# EAGLE library part DIN41612-160P (library ds_con)
Receptacle, Board-to-Board, 160 Position, 2.54 mm [.1 in] Centerline, Printed Circuit Board, 5 Row, Vertical, Eurocard Type L, Eurocard Connectors
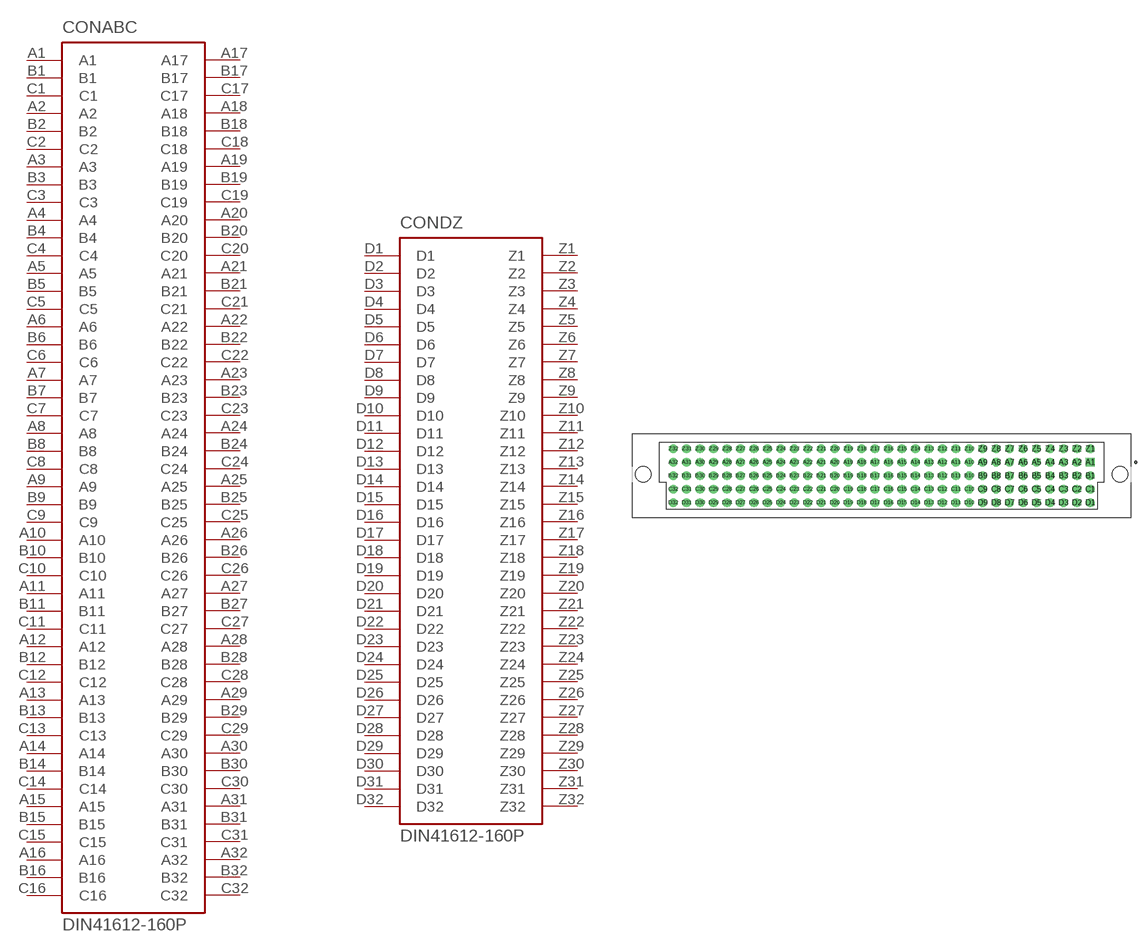
[diagram p42: symbol with the pads of DIN41612-160P; footprint DIN41612-160P]

Designator prefix CON; gates ABC=DIN41612-ABC DZ=DIN41612-DZ

## DIN41612-160P-5148452-5 (VALUE: 5148452-5)  [DIN41612-160P]
A1  ABC:A1  pas
A2  ABC:A2  pas
A3  ABC:A3  pas
A4  ABC:A4  pas
A5  ABC:A5  pas
A6  ABC:A6  pas
A7  ABC:A7  pas
A8  ABC:A8  pas
A9  ABC:A9  pas
A10  ABC:A10  pas
A11  ABC:A11  pas
A12  ABC:A12  pas
A13  ABC:A13  pas
A14  ABC:A14  pas
A15  ABC:A15  pas
A16  ABC:A16  pas
A17  ABC:A17  pas
A18  ABC:A18  pas
A19  ABC:A19  pas
A20  ABC:A20  pas
A21  ABC:A21  pas
A22  ABC:A22  pas
A23  ABC:A23  pas
A24  ABC:A24  pas
A25  ABC:A25  pas
A26  ABC:A26  pas
A27  ABC:A27  pas
A28  ABC:A28  pas
A29  ABC:A29  pas
A30  ABC:A30  pas
A31  ABC:A31  pas
A32  ABC:A32  pas
B1  ABC:B1  pas
B2  ABC:B2  pas
B3  ABC:B3  pas
B4  ABC:B4  pas
B5  ABC:B5  pas
B6  ABC:B6  pas
B7  ABC:B7  pas
B8  ABC:B8  pas
B9  ABC:B9  pas
B10  ABC:B10  pas
B11  ABC:B11  pas
B12  ABC:B12  pas
B13  ABC:B13  pas
B14  ABC:B14  pas
B15  ABC:B15  pas
B16  ABC:B16  pas
B17  ABC:B17  pas
B18  ABC:B18  pas
B19  ABC:B19  pas
B20  ABC:B20  pas
B21  ABC:B21  pas
B22  ABC:B22  pas
B23  ABC:B23  pas
B24  ABC:B24  pas
B25  ABC:B25  pas
B26  ABC:B26  pas
B27  ABC:B27  pas
B28  ABC:B28  pas
B29  ABC:B29  pas
B30  ABC:B30  pas
B31  ABC:B31  pas
B32  ABC:B32  pas
C1  ABC:C1  pas
C2  ABC:C2  pas
C3  ABC:C3  pas
C4  ABC:C4  pas
C5  ABC:C5  pas
C6  ABC:C6  pas
C7  ABC:C7  pas
C8  ABC:C8  pas
C9  ABC:C9  pas
C10  ABC:C10  pas
C11  ABC:C11  pas
C12  ABC:C12  pas
C13  ABC:C13  pas
C14  ABC:C14  pas
C15  ABC:C15  pas
C16  ABC:C16  pas
C17  ABC:C17  pas
C18  ABC:C18  pas
C19  ABC:C19  pas
C20  ABC:C20  pas
C21  ABC:C21  pas
C22  ABC:C22  pas
C23  ABC:C23  pas
C24  ABC:C24  pas
C25  ABC:C25  pas
C26  ABC:C26  pas
C27  ABC:C27  pas
C28  ABC:C28  pas
C29  ABC:C29  pas
C30  ABC:C30  pas
C31  ABC:C31  pas
C32  ABC:C32  pas
D1  DZ:D1  pas
D2  DZ:D2  pas
D3  DZ:D3  pas
D4  DZ:D4  pas
D5  DZ:D5  pas
D6  DZ:D6  pas
D7  DZ:D7  pas
D8  DZ:D8  pas
D9  DZ:D9  pas
D10  DZ:D10  pas
D11  DZ:D11  pas
D12  DZ:D12  pas
D13  DZ:D13  pas
D14  DZ:D14  pas
D15  DZ:D15  pas
D16  DZ:D16  pas
D17  DZ:D17  pas
D18  DZ:D18  pas
D19  DZ:D19  pas
D20  DZ:D20  pas
D21  DZ:D21  pas
D22  DZ:D22  pas
D23  DZ:D23  pas
D24  DZ:D24  pas
D25  DZ:D25  pas
D26  DZ:D26  pas
D27  DZ:D27  pas
D28  DZ:D28  pas
D29  DZ:D29  pas
D30  DZ:D30  pas
D31  DZ:D31  pas
D32  DZ:D32  pas
Z1  DZ:Z1  pas
Z2  DZ:Z2  pas
Z3  DZ:Z3  pas
Z4  DZ:Z4  pas
Z5  DZ:Z5  pas
Z6  DZ:Z6  pas
Z7  DZ:Z7  pas
Z8  DZ:Z8  pas
Z9  DZ:Z9  pas
Z10  DZ:Z10  pas
Z11  DZ:Z11  pas
Z12  DZ:Z12  pas
Z13  DZ:Z13  pas
Z14  DZ:Z14  pas
Z15  DZ:Z15  pas
Z16  DZ:Z16  pas
Z17  DZ:Z17  pas
Z18  DZ:Z18  pas
Z19  DZ:Z19  pas
Z20  DZ:Z20  pas
Z21  DZ:Z21  pas
Z22  DZ:Z22  pas
Z23  DZ:Z23  pas
Z24  DZ:Z24  pas
Z25  DZ:Z25  pas
Z26  DZ:Z26  pas
Z27  DZ:Z27  pas
Z28  DZ:Z28  pas
Z29  DZ:Z29  pas
Z30  DZ:Z30  pas
Z31  DZ:Z31  pas
Z32  DZ:Z32  pas

## DIN41612-160P-02021602201 (VALUE: 02021602201)  [DIN41612-160P]
Pads as for DIN41612-160P

## Footprint DIN41612-160P (pad centres in mm)
drill 1.1 square: A1 39.37,2.54
drill 1.1: A2 36.83,2.54; A3 34.29,2.54; A4 31.75,2.54; A5 29.21,2.54; A6 26.67,2.54; A7 24.13,2.54; A8 21.59,2.54; A9 19.05,2.54; A10 16.51,2.54; A11 13.97,2.54; A12 11.43,2.54; A13 8.89,2.54; A14 6.35,2.54; A15 3.81,2.54; A16 1.27,2.54; A17 -1.27,2.54; A18 -3.81,2.54; A19 -6.35,2.54; A20 -8.89,2.54; A21 -11.43,2.54; A22 -13.97,2.54; A23 -16.51,2.54; A24 -19.05,2.54; A25 -21.59,2.54; A26 -24.13,2.54; A27 -26.67,2.54; A28 -29.21,2.54; A29 -31.75,2.54; A30 -34.29,2.54; A31 -36.83,2.54; A32 -39.37,2.54; B1 39.37,0; B2 36.83,0; B3 34.29,0; B4 31.75,0; B5 29.21,0; B6 26.67,0; B7 24.13,0; B8 21.59,0; B9 19.05,0; B10 16.51,0; B11 13.97,0; B12 11.43,0; B13 8.89,0; B14 6.35,0; B15 3.81,0; B16 1.27,0; B17 -1.27,0; B18 -3.81,0; B19 -6.35,0; B20 -8.89,0; B21 -11.43,0; B22 -13.97,0; B23 -16.51,0; B24 -19.05,0; B25 -21.59,0; B26 -24.13,0; B27 -26.67,0; B28 -29.21,0; B29 -31.75,0; B30 -34.29,0; B31 -36.83,0; B32 -39.37,0; C1 39.37,-2.54; C2 36.83,-2.54; C3 34.29,-2.54; C4 31.75,-2.54; C5 29.21,-2.54; C6 26.67,-2.54; C7 24.13,-2.54; C8 21.59,-2.54; C9 19.05,-2.54; C10 16.51,-2.54; C11 13.97,-2.54; C12 11.43,-2.54; C13 8.89,-2.54; C14 6.35,-2.54; C15 3.81,-2.54; C16 1.27,-2.54; C17 -1.27,-2.54; C18 -3.81,-2.54; C19 -6.35,-2.54; C20 -8.89,-2.54; C21 -11.43,-2.54; C22 -13.97,-2.54; C23 -16.51,-2.54; C24 -19.05,-2.54; C25 -21.59,-2.54; C26 -24.13,-2.54; C27 -26.67,-2.54; C28 -29.21,-2.54; C29 -31.75,-2.54; C30 -34.29,-2.54; C31 -36.83,-2.54; C32 -39.37,-2.54; D1 39.37,-5.08; D2 36.83,-5.08; D3 34.29,-5.08; D4 31.75,-5.08; D5 29.21,-5.08; D6 26.67,-5.08; D7 24.13,-5.08; D8 21.59,-5.08; D9 19.05,-5.08; D10 16.51,-5.08; D11 13.97,-5.08; D12 11.43,-5.08; D13 8.89,-5.08; D14 6.35,-5.08; D15 3.81,-5.08; D16 1.27,-5.08; D17 -1.27,-5.08; D18 -3.81,-5.08; D19 -6.35,-5.08; D20 -8.89,-5.08; D21 -11.43,-5.08; D22 -13.97,-5.08; D23 -16.51,-5.08; D24 -19.05,-5.08; D25 -21.59,-5.08; D26 -24.13,-5.08; D27 -26.67,-5.08; D28 -29.21,-5.08; D29 -31.75,-5.08; D30 -34.29,-5.08; D31 -36.83,-5.08; D32 -39.37,-5.08; Z1 39.37,5.08; Z2 36.83,5.08; Z3 34.29,5.08; Z4 31.75,5.08; Z5 29.21,5.08; Z6 26.67,5.08; Z7 24.13,5.08; Z8 21.59,5.08; Z9 19.05,5.08; Z10 16.51,5.08; Z11 13.97,5.08; Z12 11.43,5.08; Z13 8.89,5.08; Z14 6.35,5.08; Z15 3.81,5.08; Z16 1.27,5.08; Z17 -1.27,5.08; Z18 -3.81,5.08; Z19 -6.35,5.08; Z20 -8.89,5.08; Z21 -11.43,5.08; Z22 -13.97,5.08; Z23 -16.51,5.08; Z24 -19.05,5.08; Z25 -21.59,5.08; Z26 -24.13,5.08; Z27 -26.67,5.08; Z28 -29.21,5.08; Z29 -31.75,5.08; Z30 -34.29,5.08; Z31 -36.83,5.08; Z32 -39.37,5.08
hole 2.89 at -45,0.3
hole 2.89 at 45,0.3